# Altium schematic symbol library LDR.SchLib: 1 symbol
Pins are listed as number, name and electrical type; pins without a type are passive.

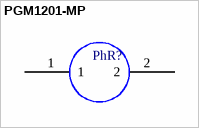
[diagram p0: symbol PGM1201-MP]

## PGM1201-MP
designator PhR?
Photoresistor; 250mW; 4÷10kΩ; 560nm; THT; 250VDC; ØLED: 12mm; Manufacturer part number: PGM1201-MP; Manufacturer: Token; Datasheet link: https://www.datasheets.com/part-details/pgm1201-mp-token-electronics-industry-co---ltd-425268427#package
footprint PGM1201-MP
pins: 1, 2